# Altium footprint library SW-T3-2B-A-A3-S1.PcbLib: 1 footprints
Each footprint in its own frame and in the unit in brackets; x right, y up, seen from the top. Pads: shape width x height; smd on the part's side, far side on the other; paste and mask are expansions set on the pad; w line width, h text height; cw(c..) or ccw(c..) is an arc to the next point about the centre after c.
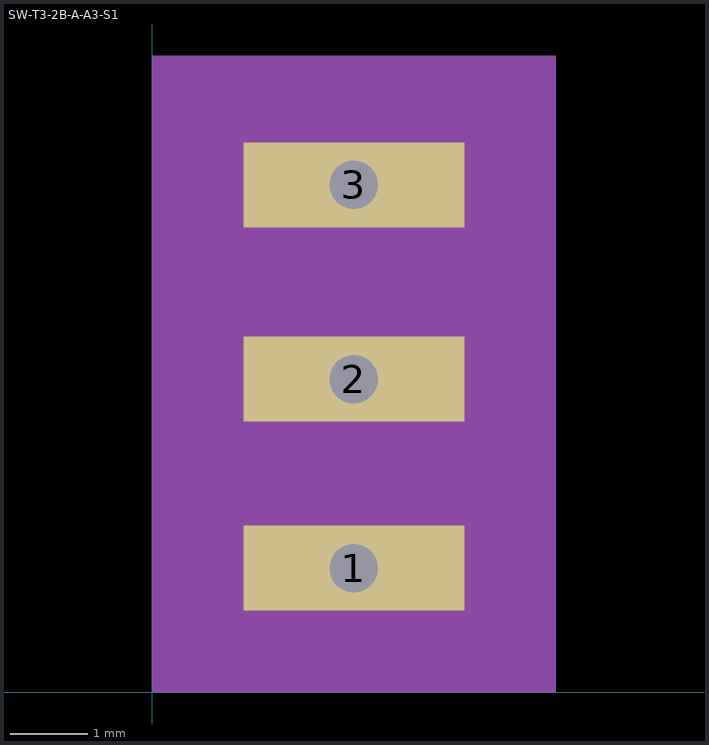
[diagram p0: the footprint, top view; thin cyan lines are the x and y axes]

## SW-T3-2B-A-A3-S1 [mm] "SW-T3-2B-A-A3-S1"
height 22.5
pads (3):
  rect 2.843x1.093 hole 0.625 square: 1(2.599,1.599) 2(2.599,4.035) 3(2.599,6.535)
Mechanical 1:
  pour cut-out: 0,8.2 5.2,8.2 5.2,0 0,0
3D body "SW-T3-2B-A-A3-S1.stp": height 22.59, standoff -4.9, extent -2.921,-1.351 7.995,11.003